# EAGLE library part YUL262RTX (library YUL262RTX)
YUL262RTX Technical Specifications: VCC: 3.3-5.0V Frequency: 262.0MHz - 264.0MHz BAND Operating Temperature: -20°C to 85°C
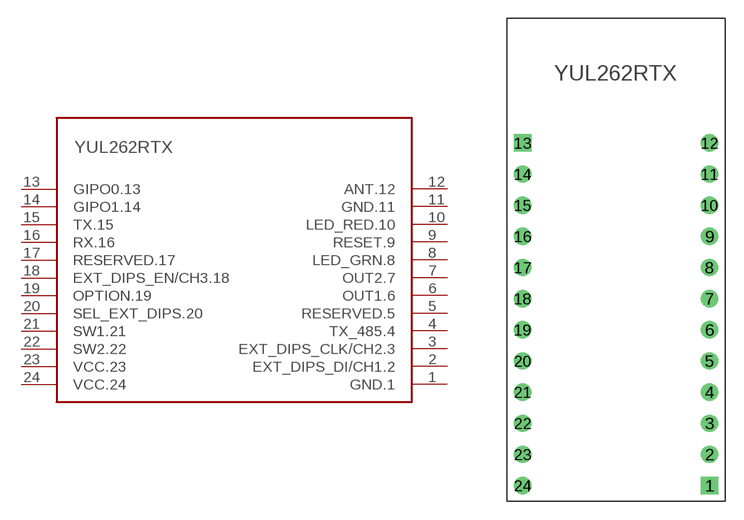
[diagram p0: symbol with the pads of YUL262RTX; footprint YUL262RTX]

Designator prefix -

## YUL262RTX  [YUL262RTX]
1  GND.1
2  EXT_DIPS_DI/CH1.2
3  EXT_DIPS_CLK/CH2.3
4  TX_485.4
5  RESERVED.5
6  OUT1.6
7  OUT2.7
8  LED_GRN.8
9  RESET.9
10  LED_RED.10
11  GND.11
12  ANT.12
13  GIPO0.13
14  GIPO1.14
15  TX.15
16  RX.16
17  RESERVED.17
18  EXT_DIPS_EN/CH3.18
19  OPTION.19
20  SEL_EXT_DIPS.20
21  SW1.21
22  SW2.22
23  VCC.23
24  VCC.24

## Footprint YUL262RTX (pad centres in mm)
drill 0.9 square: 1 7.62,-13.97; 13 -7.62,13.97
drill 0.9: 2 7.62,-11.43; 3 7.62,-8.89; 4 7.62,-6.35; 5 7.62,-3.81; 6 7.62,-1.27; 7 7.62,1.27; 8 7.62,3.81; 9 7.62,6.35; 10 7.62,8.89; 11 7.62,11.43; 12 7.62,13.97; 14 -7.62,11.43; 15 -7.62,8.89; 16 -7.62,6.35; 17 -7.62,3.81; 18 -7.62,1.27; 19 -7.62,-1.27; 20 -7.62,-3.81; 21 -7.62,-6.35; 22 -7.62,-8.89; 23 -7.62,-11.43; 24 -7.62,-13.97